# EAGLE library part NPN-DUAL (library LinnesLab-DiscreteSemi)
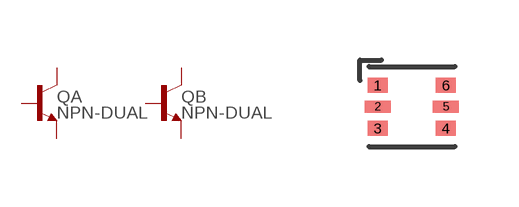
[diagram p2: symbol with the pads of SOT-666; footprint SOT-666]

Designator prefix Q; gates A=NPN B=NPN

## NPN-DUAL-SOT666  [SOT-666]
1  A:E  pas
2  A:B  pas
3  B:C  pas
4  B:E  pas
5  B:B  pas
6  A:C  pas

## Footprint SOT-666 (pad centres in mm)
smd 0.5 x 0.375: 1 -0.85,0.538; 3 -0.85,-0.538; 4 0.85,-0.538; 6 0.85,0.538
smd 0.65 x 0.3: 2 -0.85,0; 5 0.85,0